# EAGLE library part PWR_SPI_HDR (library ARVP_07-15-13)
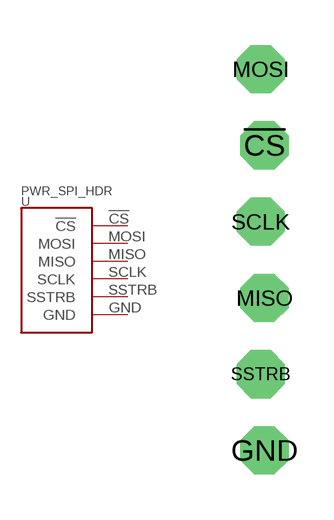
[diagram p16: symbol with the pads of PWR_SPI_HDR; footprint PWR_SPI_HDR]

Designator prefix -

## PWR_SPI_HDR  [PWR_SPI_HDR]
!CS  !CS
GND  GND
MISO  MISO
MOSI  MOSI
SCLK  SCLK
SSTRB  SSTRB

## Footprint PWR_SPI_HDR (pad centres in mm)
drill 1.067 octagon: !CS 0.127,3.81; GND 0.127,-6.35; MISO 0.127,-1.27; MOSI 0,6.35; SCLK 0,1.27; SSTRB 0,-3.81